# EAGLE library part ESP32_WROVER_BME680_BME680 (library DeskAssistant v19 v1 v6)
Integrated Environmental Unit
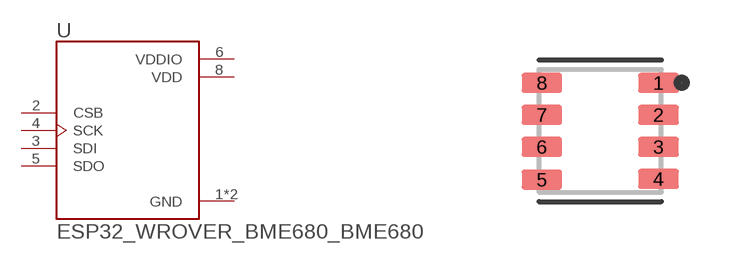
[diagram p1: symbol with the pads of ESP32_WROVER_BME680_PSON80P300X300X100-8N; footprint ESP32_WROVER_BME680_PSON80P300X300X100-8N]

Designator prefix U

## ESP32_WROVER_BME680_BME680 (AVAILABILITY: Unavailable; DESCRIPTION: Integrated Environmental Unit; MF: Bosch Sensortec; MP: BME680; PACKAGE: LGA-8 Bosch Tools; PRICE: None)  [ESP32_WROVER_BME680_PSON80P300X300X100-8N]
1  GND  pwr
2  CSB  in
3  SDI
4  SCK  in
5  SDO
6  VDDIO  pwr
7  GND  pwr
8  VDD  pwr

## Footprint ESP32_WROVER_BME680_PSON80P300X300X100-8N (pad centres in mm)
smd 1.016 x 0.5: 1 1.458,1.2; 2 1.458,0.4; 3 1.458,-0.4; 4 1.458,-1.2; 5 -1.458,-1.22; 6 -1.458,-0.4; 7 -1.458,0.4; 8 -1.458,1.2